# Altium footprint library Components - 02.09.24 - 11.15.PcbLib: 1 footprints
Each footprint in its own frame and in the unit in brackets; x right, y up, seen from the top. Pads: shape width x height; smd on the part's side, far side on the other; paste and mask are expansions set on the pad; w line width, h text height; cw(c..) or ccw(c..) is an arc to the next point about the centre after c.
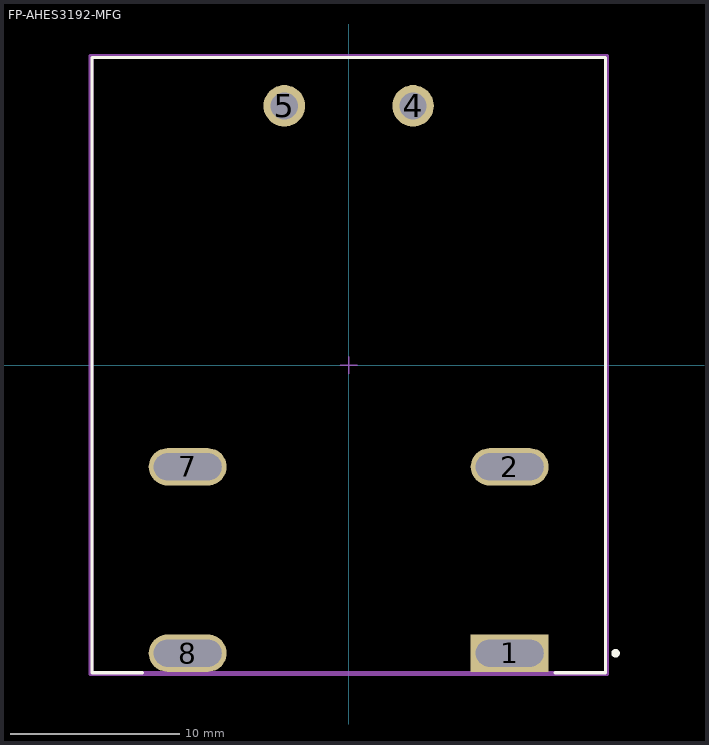
[diagram p0: the footprint, top view; thin cyan lines are the x and y axes]

## FP-AHES3192-MFG [mm]
pads (6):
  rect 4.6x2.2 hole 1.6 slot 4 at 0 deg paste-1000 mask+0: 1(9.5,-17)
  rrect100% 4.6x2.2 hole 1.6 slot 4 at 0 deg paste-1000 mask+0: 2(9.5,-6) 7(-9.5,-6) 8(-9.5,-17)
  round 2.45 hole 1.6 paste-1000 mask+0: 4(3.8,15.3) 5(-3.8,15.3)
Top Overlay:
  circle w0.25: c15.75,-17 r0.125
  lines w0.2: -12.175,-18.15 -15.15,-18.15 -15.15,18.15 15.15,18.15 15.15,-18.15 12.175,-18.15
Top Assembly:
  lines w0.2: -15.25,-18.25 -15.25,18.25 15.25,18.25 15.25,-18.25 -15.25,-18.25
  text ".Designator" at 0,0.188 h1
Top 3D Body:
  lines w0.2: -15.15,-18.15 -15.15,18.15 15.15,18.15 15.15,-18.15 -15.15,-18.15
Top Courtyard:
  lines w0.2: -15.25,-18.25 -15.25,18.25 15.25,18.25 15.25,-18.25 -15.25,-18.25
Top Component Center:
  lines w0.1: -0.5,0 0.5,0 ; 0,-0.5 0,0.5
3D body "Relay_Panasonic_AHES3192_eec.STEP": height 0.25, standoff 0, extent -15.25,-18.25 15.25,18.25